# Altium schematic symbol library SCH - MCU - SI LABS - SI LABS EFM32WG295F256 120-PIN BGA 7X7.SchLib: 1 symbol
Pins are listed as number, name and electrical type; pins without a type are passive.

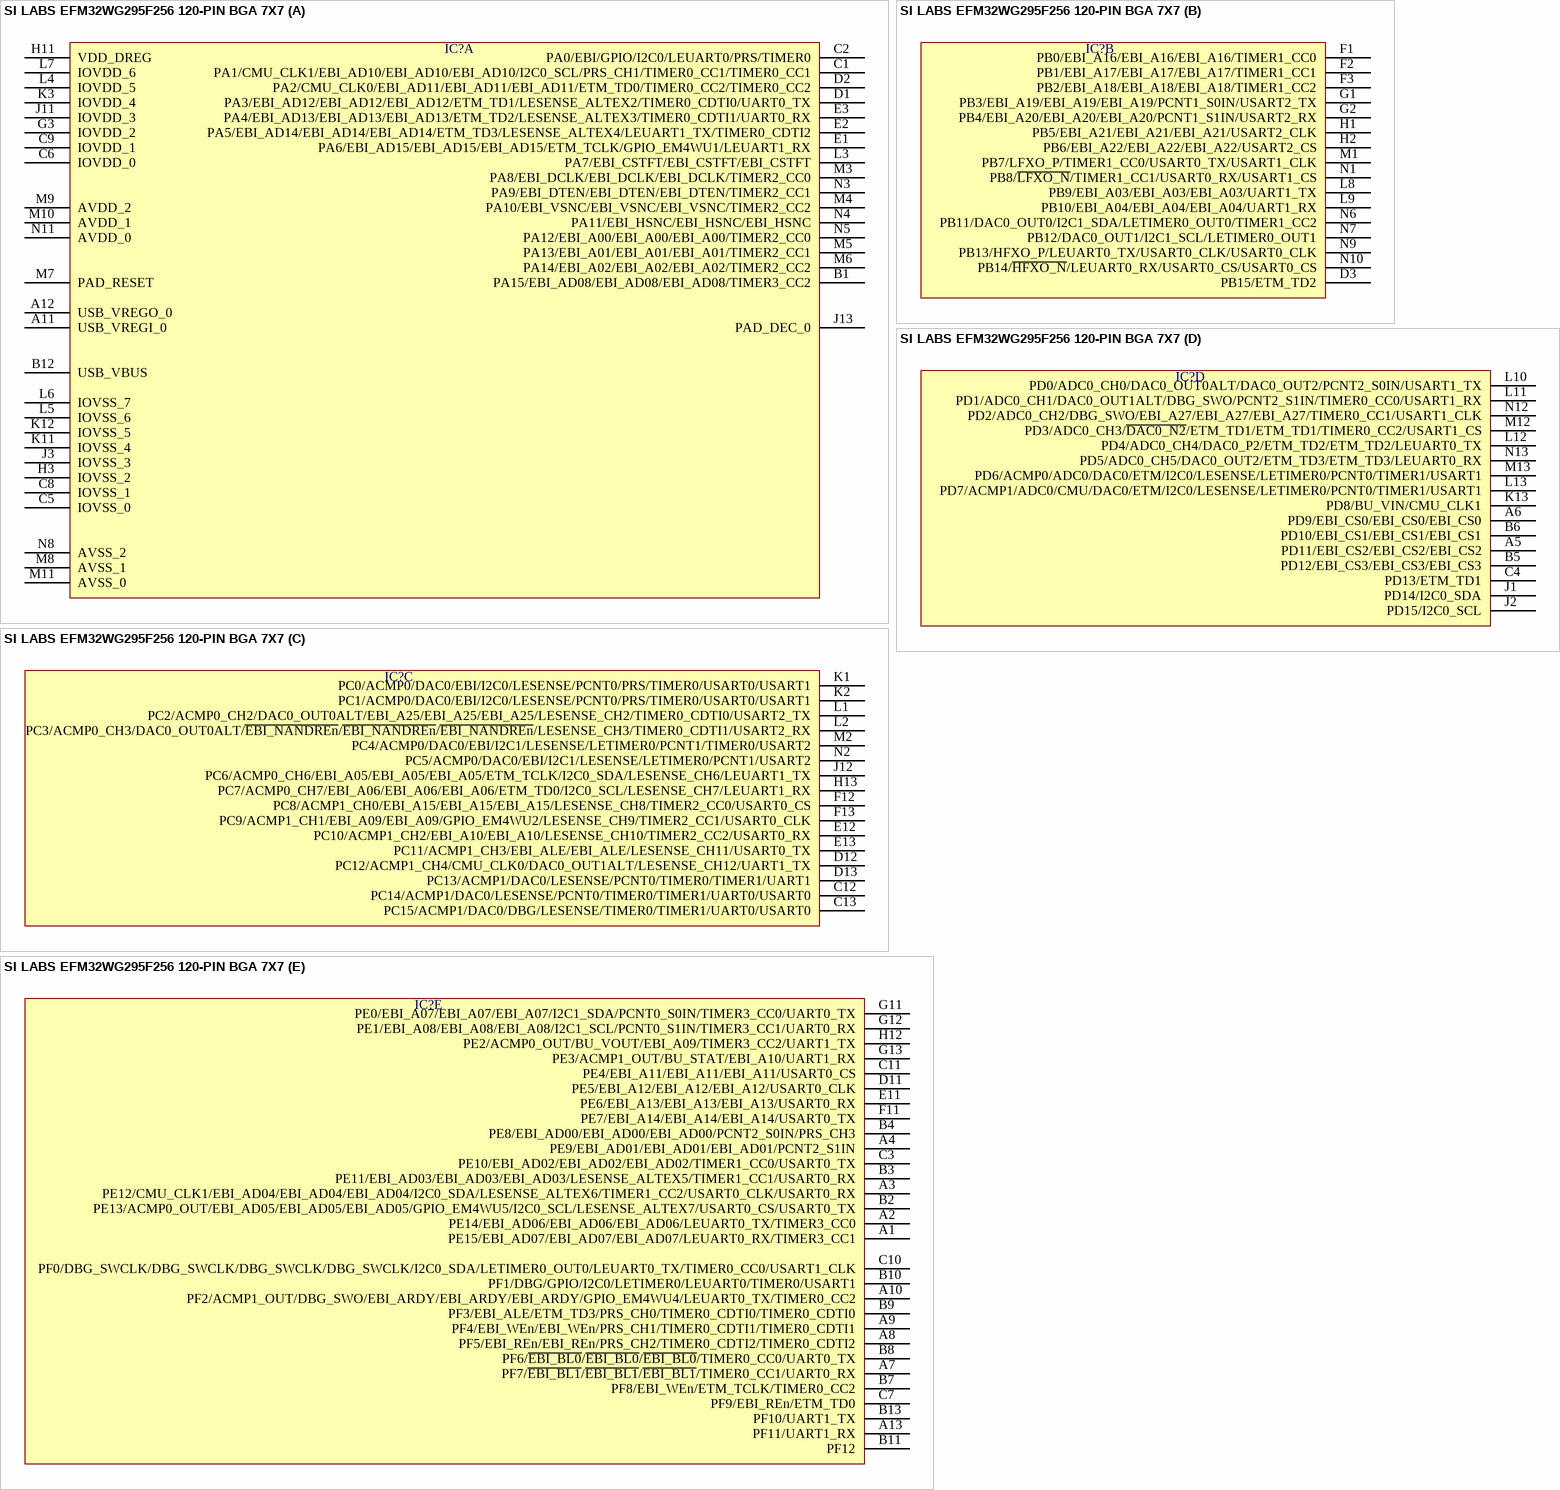
[diagram p0: symbol SI LABS EFM32WG295F256 120-PIN BGA 7X7]

## SI LABS EFM32WG295F256 120-PIN BGA 7X7
designator IC?  (value not drawn)
part A pins: A11 USB_VREGI_0, A12 USB_VREGO_0, B1 PA15/EBI_AD08/EBI_AD08/EBI_AD08/TIMER3_CC2, B12 USB_VBUS, C1 PA1/CMU_CLK1/EBI_AD10/EBI_AD10/EBI_AD10/I2C0_SCL/PRS_CH1/TIMER0_CC1/TIMER0_CC1, C2 PA0/EBI/GPIO/I2C0/LEUART0/PRS/TIMER0, C5 IOVSS_0, C6 IOVDD_0, C8 IOVSS_1, C9 IOVDD_1, D1 PA3/EBI_AD12/EBI_AD12/EBI_AD12/ETM_TD1/LESENSE_ALTEX2/TIMER0_CDTI0/UART0_TX, D2 PA2/CMU_CLK0/EBI_AD11/EBI_AD11/EBI_AD11/ETM_TD0/TIMER0_CC2/TIMER0_CC2, E1 PA6/EBI_AD15/EBI_AD15/EBI_AD15/ETM_TCLK/GPIO_EM4WU1/LEUART1_RX, E2 PA5/EBI_AD14/EBI_AD14/EBI_AD14/ETM_TD3/LESENSE_ALTEX4/LEUART1_TX/TIMER0_CDTI2, E3 PA4/EBI_AD13/EBI_AD13/EBI_AD13/ETM_TD2/LESENSE_ALTEX3/TIMER0_CDTI1/UART0_RX, G3 IOVDD_2, H3 IOVSS_2, H11 VDD_DREG, J3 IOVSS_3, J11 IOVDD_3, J13 PAD_DEC_0, K3 IOVDD_4, K11 IOVSS_4, K12 IOVSS_5, L3 PA7/EBI_CSTFT/EBI_CSTFT/EBI_CSTFT, L4 IOVDD_5, L5 IOVSS_6, L6 IOVSS_7, L7 IOVDD_6, M3 PA8/EBI_DCLK/EBI_DCLK/EBI_DCLK/TIMER2_CC0, M4 PA10/EBI_VSNC/EBI_VSNC/EBI_VSNC/TIMER2_CC2, M5 PA13/EBI_A01/EBI_A01/EBI_A01/TIMER2_CC1, M6 PA14/EBI_A02/EBI_A02/EBI_A02/TIMER2_CC2, M7 PAD_RESET, M8 AVSS_1, M9 AVDD_2, M10 AVDD_1, M11 AVSS_0, N3 PA9/EBI_DTEN/EBI_DTEN/EBI_DTEN/TIMER2_CC1, N4 PA11/EBI_HSNC/EBI_HSNC/EBI_HSNC, N5 PA12/EBI_A00/EBI_A00/EBI_A00/TIMER2_CC0, N8 AVSS_2, N11 AVDD_0
part B pins: D3 PB15/ETM_TD2, F1 PB0/EBI_A16/EBI_A16/EBI_A16/TIMER1_CC0, F2 PB1/EBI_A17/EBI_A17/EBI_A17/TIMER1_CC1, F3 PB2/EBI_A18/EBI_A18/EBI_A18/TIMER1_CC2, G1 PB3/EBI_A19/EBI_A19/EBI_A19/PCNT1_S0IN/USART2_TX, G2 PB4/EBI_A20/EBI_A20/EBI_A20/PCNT1_S1IN/USART2_RX, H1 PB5/EBI_A21/EBI_A21/EBI_A21/USART2_CLK, H2 PB6/EBI_A22/EBI_A22/EBI_A22/USART2_CS, L8 PB9/EBI_A03/EBI_A03/EBI_A03/UART1_TX, L9 PB10/EBI_A04/EBI_A04/EBI_A04/UART1_RX, M1 PB7/LFXO_P/TIMER1_CC0/USART0_TX/USART1_CLK, N1 PB8/~{LFXO_N}/TIMER1_CC1/USART0_RX/USART1_CS, N6 PB11/DAC0_OUT0/I2C1_SDA/LETIMER0_OUT0/TIMER1_CC2, N7 PB12/DAC0_OUT1/I2C1_SCL/LETIMER0_OUT1, N9 PB13/HFXO_P/LEUART0_TX/USART0_CLK/USART0_CLK, N10 PB14/~{HFXO_N}/LEUART0_RX/USART0_CS/USART0_CS
part C pins: C12 PC14/ACMP1/DAC0/LESENSE/PCNT0/TIMER0/TIMER1/UART0/USART0, C13 PC15/ACMP1/DAC0/DBG/LESENSE/TIMER0/TIMER1/UART0/USART0, D12 PC12/ACMP1_CH4/CMU_CLK0/DAC0_OUT1ALT/LESENSE_CH12/UART1_TX, D13 PC13/ACMP1/DAC0/LESENSE/PCNT0/TIMER0/TIMER1/UART1, E12 PC10/ACMP1_CH2/EBI_A10/EBI_A10/LESENSE_CH10/TIMER2_CC2/USART0_RX, E13 PC11/ACMP1_CH3/EBI_ALE/EBI_ALE/LESENSE_CH11/USART0_TX, F12 PC8/ACMP1_CH0/EBI_A15/EBI_A15/EBI_A15/LESENSE_CH8/TIMER2_CC0/USART0_CS, F13 PC9/ACMP1_CH1/EBI_A09/EBI_A09/GPIO_EM4WU2/LESENSE_CH9/TIMER2_CC1/USART0_CLK, H13 PC7/ACMP0_CH7/EBI_A06/EBI_A06/EBI_A06/ETM_TD0/I2C0_SCL/LESENSE_CH7/LEUART1_RX, J12 PC6/ACMP0_CH6/EBI_A05/EBI_A05/EBI_A05/ETM_TCLK/I2C0_SDA/LESENSE_CH6/LEUART1_TX, K1 PC0/ACMP0/DAC0/EBI/I2C0/LESENSE/PCNT0/PRS/TIMER0/USART0/USART1, K2 PC1/ACMP0/DAC0/EBI/I2C0/LESENSE/PCNT0/PRS/TIMER0/USART0/USART1, L1 PC2/ACMP0_CH2/DAC0_OUT0ALT/EBI_A25/EBI_A25/EBI_A25/LESENSE_CH2/TIMER0_CDTI0/USART2_TX, L2 PC3/ACMP0_CH3/DAC0_OUT0ALT/~{EBI_NANDREn}/~{EBI_NANDREn}/~{EBI_NANDREn}/LESENSE_CH3/TIMER0_CDTI1/USART2_RX, M2 PC4/ACMP0/DAC0/EBI/I2C1/LESENSE/LETIMER0/PCNT1/TIMER0/USART2, N2 PC5/ACMP0/DAC0/EBI/I2C1/LESENSE/LETIMER0/PCNT1/USART2
part D pins: A5 PD11/EBI_CS2/EBI_CS2/EBI_CS2, A6 PD9/EBI_CS0/EBI_CS0/EBI_CS0, B5 PD12/EBI_CS3/EBI_CS3/EBI_CS3, B6 PD10/EBI_CS1/EBI_CS1/EBI_CS1, C4 PD13/ETM_TD1, J1 PD14/I2C0_SDA, J2 PD15/I2C0_SCL, K13 PD8/BU_VIN/CMU_CLK1, L10 PD0/ADC0_CH0/DAC0_OUT0ALT/DAC0_OUT2/PCNT2_S0IN/USART1_TX, L11 PD1/ADC0_CH1/DAC0_OUT1ALT/DBG_SWO/PCNT2_S1IN/TIMER0_CC0/USART1_RX, L12 PD4/ADC0_CH4/DAC0_P2/ETM_TD2/ETM_TD2/LEUART0_TX, L13 PD7/ACMP1/ADC0/CMU/DAC0/ETM/I2C0/LESENSE/LETIMER0/PCNT0/TIMER1/USART1, M12 PD3/ADC0_CH3/~{DAC0_N2}/ETM_TD1/ETM_TD1/TIMER0_CC2/USART1_CS, M13 PD6/ACMP0/ADC0/DAC0/ETM/I2C0/LESENSE/LETIMER0/PCNT0/TIMER1/USART1, N12 PD2/ADC0_CH2/DBG_SWO/EBI_A27/EBI_A27/EBI_A27/TIMER0_CC1/USART1_CLK, N13 PD5/ADC0_CH5/DAC0_OUT2/ETM_TD3/ETM_TD3/LEUART0_RX
part E pins: A1 PE15/EBI_AD07/EBI_AD07/EBI_AD07/LEUART0_RX/TIMER3_CC1, A2 PE14/EBI_AD06/EBI_AD06/EBI_AD06/LEUART0_TX/TIMER3_CC0, A3 PE12/CMU_CLK1/EBI_AD04/EBI_AD04/EBI_AD04/I2C0_SDA/LESENSE_ALTEX6/TIMER1_CC2/USART0_CLK/USART0_RX, A4 PE9/EBI_AD01/EBI_AD01/EBI_AD01/PCNT2_S1IN, A7 PF7/~{EBI_BL1}/~{EBI_BL1}/~{EBI_BL1}/TIMER0_CC1/UART0_RX, A8 PF5/EBI_REn/EBI_REn/PRS_CH2/TIMER0_CDTI2/TIMER0_CDTI2, A9 PF4/EBI_WEn/EBI_WEn/PRS_CH1/TIMER0_CDTI1/TIMER0_CDTI1, A10 PF2/ACMP1_OUT/DBG_SWO/EBI_ARDY/EBI_ARDY/EBI_ARDY/GPIO_EM4WU4/LEUART0_TX/TIMER0_CC2, A13 PF11/UART1_RX, B2 PE13/ACMP0_OUT/EBI_AD05/EBI_AD05/EBI_AD05/GPIO_EM4WU5/I2C0_SCL/LESENSE_ALTEX7/USART0_CS/USART0_TX, B3 PE11/EBI_AD03/EBI_AD03/EBI_AD03/LESENSE_ALTEX5/TIMER1_CC1/USART0_RX, B4 PE8/EBI_AD00/EBI_AD00/EBI_AD00/PCNT2_S0IN/PRS_CH3, B7 PF8/EBI_WEn/ETM_TCLK/TIMER0_CC2, B8 PF6/~{EBI_BL0}/~{EBI_BL0}/~{EBI_BL0}/TIMER0_CC0/UART0_TX, B9 PF3/EBI_ALE/ETM_TD3/PRS_CH0/TIMER0_CDTI0/TIMER0_CDTI0, B10 PF1/DBG/GPIO/I2C0/LETIMER0/LEUART0/TIMER0/USART1, B11 PF12, B13 PF10/UART1_TX, C3 PE10/EBI_AD02/EBI_AD02/EBI_AD02/TIMER1_CC0/USART0_TX, C7 PF9/EBI_REn/ETM_TD0, C10 PF0/DBG_SWCLK/DBG_SWCLK/DBG_SWCLK/DBG_SWCLK/I2C0_SDA/LETIMER0_OUT0/LEUART0_TX/TIMER0_CC0/USART1_CLK, C11 PE4/EBI_A11/EBI_A11/EBI_A11/USART0_CS, D11 PE5/EBI_A12/EBI_A12/EBI_A12/USART0_CLK, E11 PE6/EBI_A13/EBI_A13/EBI_A13/USART0_RX, F11 PE7/EBI_A14/EBI_A14/EBI_A14/USART0_TX, G11 PE0/EBI_A07/EBI_A07/EBI_A07/I2C1_SDA/PCNT0_S0IN/TIMER3_CC0/UART0_TX, G12 PE1/EBI_A08/EBI_A08/EBI_A08/I2C1_SCL/PCNT0_S1IN/TIMER3_CC1/UART0_RX, G13 PE3/ACMP1_OUT/BU_STAT/EBI_A10/UART1_RX, H12 PE2/ACMP0_OUT/BU_VOUT/EBI_A09/TIMER3_CC2/UART1_TX